# Altium schematic symbol library Schlib1.SchLib: 5 symbols
Pins are listed as number, name and electrical type; pins without a type are passive.

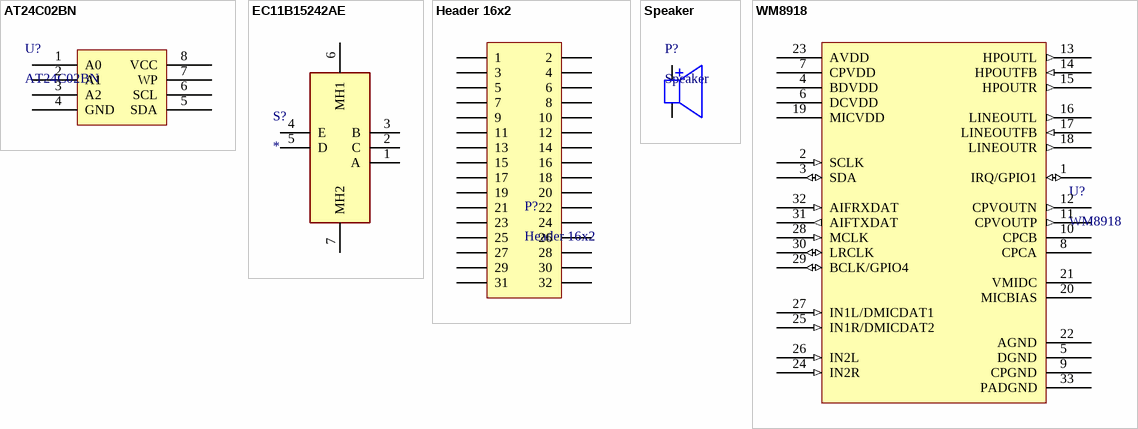
[diagram p0: symbols AT24C02BN to WM8918]

## AT24C02BN
designator U?
Two-wire Serial EEPROM
footprint SOP-8
pins: 1 A0, 2 A1, 3 A2, 4 GND (power), 5 SDA, 6 SCL, 7 WP, 8 VCC

## EC11B15242AE
designator S?
Switch; Manufacturer_Name: ALPS; Manufacturer_Part_Number: EC11B15242AE; Description: 20mm Horizontal encoder 15 Pulses 30 DET; Height: 13mm; Mouser Part Number: 688-EC11B15242AE; Mouser Price/Stock: http://www.mouser.com/Search/ProductDetail.aspx?qs=PoKhxlfUXjIm2pRMScFQOQ%3d%3d
footprint EC11B15242AE
pins: 1 A, 2 C, 3 B, 4 E, 5 D, 6 MH1, 7 MH2

## Header 16x2
designator P?
footprint HDR2X16
pins: 1, 2, 3, 4, 5, 6, 7, 8, 9, 10, 11, 12, 13, 14, 15, 16, 17, 18, 19, 20, 21, 22, 23, 24, 25, 26, 27, 28, 29, 30, 31, 32

## Speaker
designator P?
footprint Speaker-2308
pins: 1, 2

## WM8918
designator U?
Ultra Low Power Stereo DAC with Headphone Driver, 3 Line Inputs, All standard sample rates from 8 kHz to 96 kH
footprint QFN40P400X400X80-33N
pins: 1 IRQ/GPIO1 (io), 2 SCLK (in), 3 SDA (io), 4 BDVDD (power), 5 DGND (power), 6 DCVDD (power), 7 CPVDD (power), 8 CPCA, 9 CPGND (power), 10 CPCB, 11 CPVOUTP (out), 12 CPVOUTN (out), 13 HPOUTL (out), 14 HPOUTFB (in), 15 HPOUTR (out), 16 LINEOUTL (out), 17 LINEOUTFB (in), 18 LINEOUTR (out), 19 MICVDD (power), 20 MICBIAS (power), 21 VMIDC (power), 22 AGND (power), 23 AVDD (power), 24 IN2R (in), 25 IN1R/DMICDAT2 (in), 26 IN2L (in), 27 IN1L/DMICDAT1 (in), 28 MCLK (in), 29 BCLK/GPIO4 (io), 30 LRCLK (io), 31 AIFTXDAT (out), 32 AIFRXDAT (in), 33 PADGND (power)